# EAGLE library part CS8405A_HWMODE (library TEABOX-LIB)
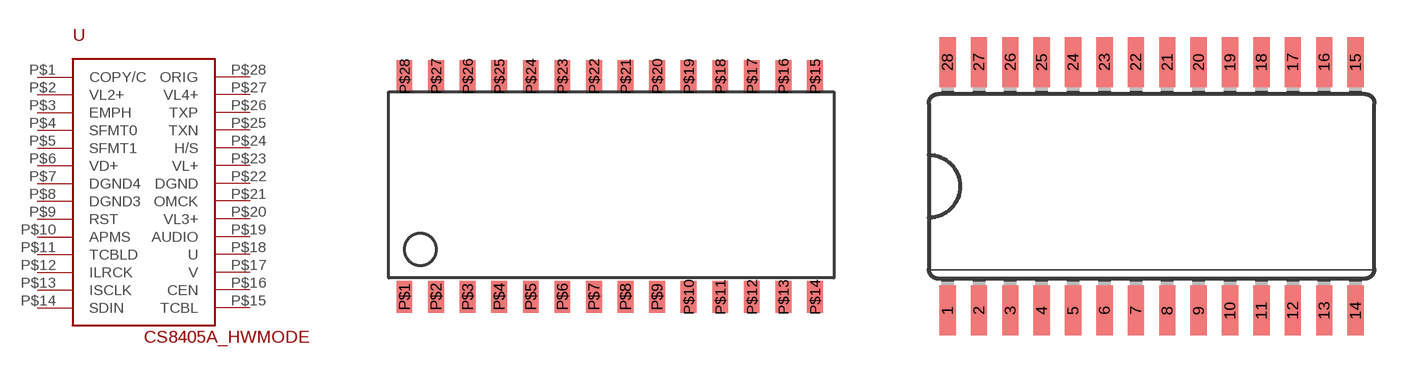
[diagram p5: symbol with the pads of 28L-SOIC; footprints 28L-SOIC, SO28L]

Designator prefix -

## CS8405A_HWMODEOLD_TAP  [28L-SOIC]
P$1  COPY/C  in
P$2  VL2+  pwr
P$3  EMPH  in
P$4  SFMT0  in
P$5  SFMT1  in
P$6  VD+  pwr
P$7  DGND4  pwr
P$8  DGND3  pwr
P$9  RST  in
P$10  APMS  in
P$11  TCBLD  in
P$12  ILRCK
P$13  ISCLK
P$14  SDIN  in
P$15  TCBL
P$16  CEN  in
P$17  V  in
P$18  U  in
P$19  AUDIO  in
P$20  VL3+  pwr
P$21  OMCK  in
P$22  DGND  pwr
P$23  VL+  pwr
P$24  H/S  in
P$25  TXN  out
P$26  TXP  out
P$27  VL4+  pwr
P$28  ORIG  in

## CS8405A_HWMODE-CS  [SO28L]
1  COPY/C  in
2  VL2+  pwr
3  EMPH  in
4  SFMT0  in
5  SFMT1  in
6  VD+  pwr
7  DGND4  pwr
8  DGND3  pwr
9  RST  in
10  APMS  in
11  TCBLD  in
12  ILRCK
13  ISCLK
14  SDIN  in
15  TCBL
16  CEN  in
17  V  in
18  U  in
19  AUDIO  in
20  VL3+  pwr
21  OMCK  in
22  DGND  pwr
23  VL+  pwr
24  H/S  in
25  TXN  out
26  TXP  out
27  VL4+  pwr
28  ORIG  in

## Footprint 28L-SOIC (pad centres in mm)
28L-SOIC part, designed for the CS8405A chip, 300 mil body
smd 0.635 x 1.27: P$1 0.635,-8.255; P$2 1.905,-8.255; P$3 3.175,-8.255; P$4 4.445,-8.255; P$5 5.715,-8.255; P$6 6.985,-8.255; P$7 8.255,-8.255; P$8 9.525,-8.255; P$9 10.795,-8.255; P$10 12.065,-8.255; P$11 13.335,-8.255; P$12 14.605,-8.255; P$13 15.875,-8.255; P$14 17.145,-8.255; P$15 17.145,0.635; P$16 15.875,0.635; P$17 14.605,0.635; P$18 13.335,0.635; P$19 12.065,0.635; P$20 10.795,0.635; P$21 9.525,0.635; P$22 8.255,0.635; P$23 6.985,0.635; P$24 5.715,0.635; P$25 4.445,0.635; P$26 3.175,0.635; P$27 1.905,0.635; P$28 0.635,0.635

## Footprint SO28L (pad centres in mm)
Small Outline Package MAX3221-MAX3243.pdf; SO28W
smd 0.66 x 2.032: 1 -8.255,-5.029; 2 -6.985,-5.029; 3 -5.715,-5.029; 4 -4.445,-5.029; 5 -3.175,-5.029; 6 -1.905,-5.029; 7 -0.635,-5.029; 8 0.635,-5.029; 9 1.905,-5.029; 10 3.175,-5.029; 11 4.445,-5.029; 12 5.715,-5.029; 13 6.985,-5.029; 14 8.255,-5.029; 15 8.255,5.029; 16 6.985,5.029; 17 5.715,5.029; 18 4.445,5.029; 19 3.175,5.029; 20 1.905,5.029; 21 0.635,5.029; 22 -0.635,5.029; 23 -1.905,5.029; 24 -3.175,5.029; 25 -4.445,5.029; 26 -5.715,5.029; 27 -6.985,5.029; 28 -8.255,5.029